# EAGLE library part AD7376ARWZ (library seismo)
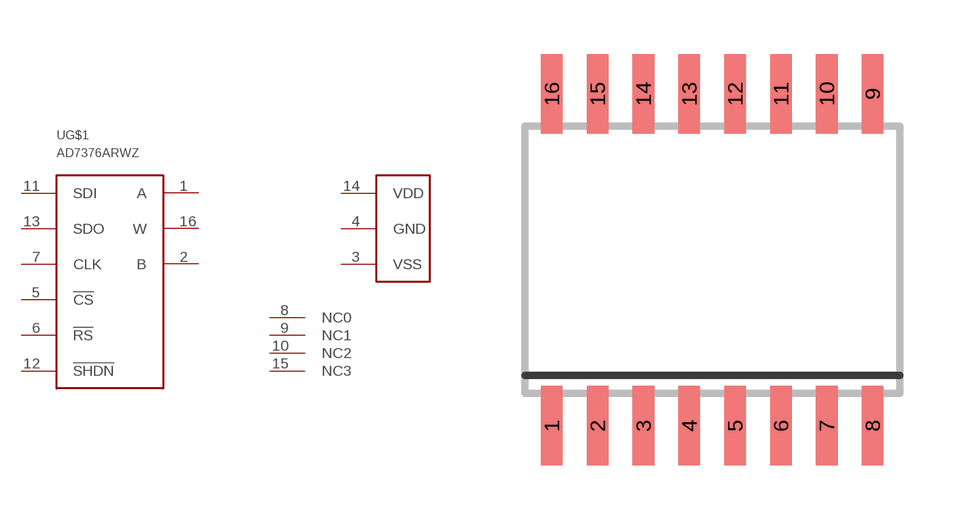
[diagram p3: symbol with the pads of SO-16W; footprint SO-16W]

Designator prefix U; gates G$1=AD7375 G$2=AD7376_P G$3=AD7376_NC

## AD7376ARWZ  [SO-16W]
1  G$1:A
2  G$1:B
3  G$2:VSS  pwr
4  G$2:GND  pwr
5  G$1:!CS  in
6  G$1:!RS  in
7  G$1:CLK  in
8  G$3:NC0  nc
9  G$3:NC1  nc
10  G$3:NC2  nc
11  G$1:SDI  in
12  G$1:!SHDN  in
13  G$1:SDO  out
14  G$2:VDD  pwr
15  G$3:NC3  nc
16  G$1:W

## Footprint SO-16W (pad centres in mm)
16-Lead (Wide Body) Small Outline Package (R-16) Source: http://www.analog.com/UploadedFiles/Data_Sheets/409317160AD421_c.pdf
smd 0.6 x 2.2: 1 -4.445,-4.6; 2 -3.175,-4.6; 3 -1.905,-4.6; 4 -0.635,-4.6; 5 0.635,-4.6; 6 1.905,-4.6; 7 3.175,-4.6; 8 4.445,-4.6; 9 4.445,4.6; 10 3.175,4.6; 11 1.905,4.6; 12 0.635,4.6; 13 -0.635,4.6; 14 -1.905,4.6; 15 -3.175,4.6; 16 -4.445,4.6